# Altium footprint library CMR_Resistors_Capacitors_and_Inductors.PcbLib: 47 footprints (part 2 of 3)
Each footprint in its own frame and in the unit in brackets; x right, y up, seen from the top. Pads: shape width x height; smd on the part's side, far side on the other; paste and mask are expansions set on the pad; w line width, h text height; cw(c..) or ccw(c..) is an arc to the next point about the centre after c.
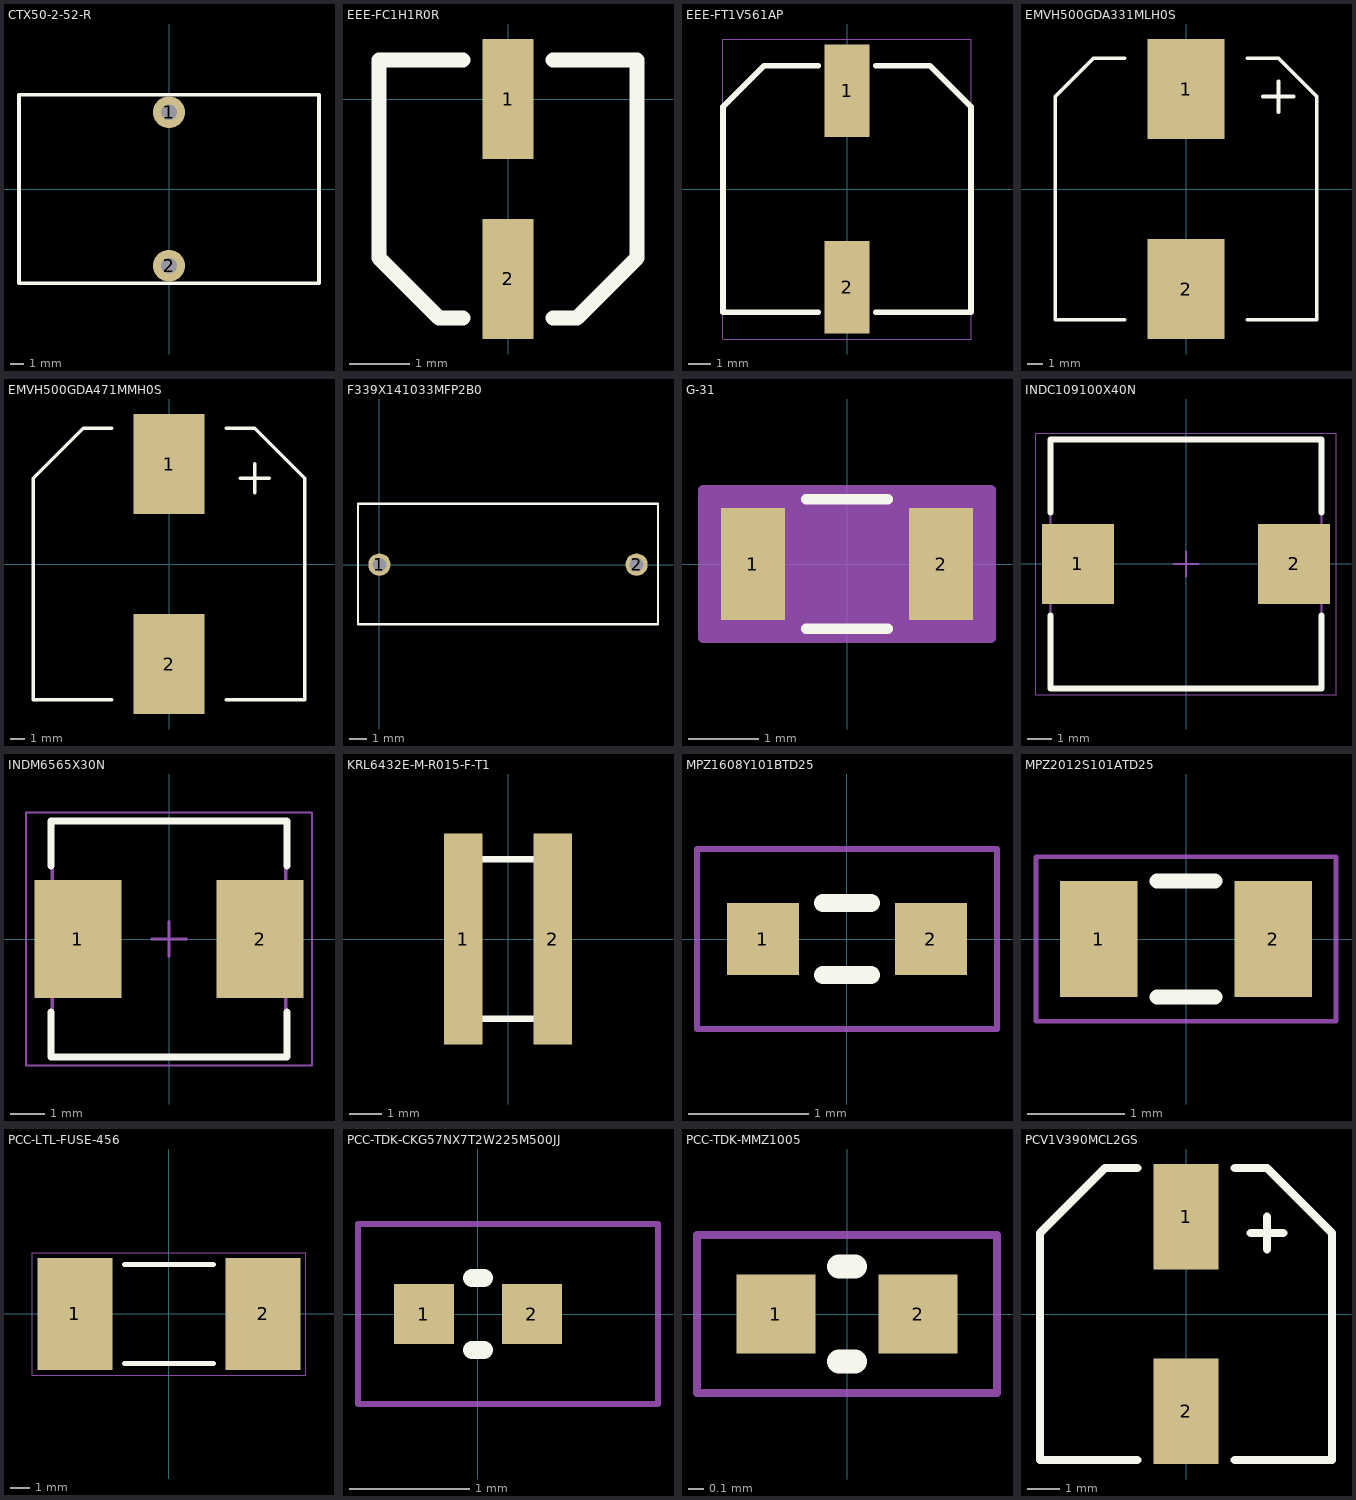
[diagram p1: the footprints below, top view; thin cyan lines are the x and y axes]

## CTX50-2-52-R [mil] "Horizontal mounted fixed inductor"
height 535.43
pads (2):
  round 90 hole 45: 1(0,216.54) 2(0,-216.54)
Top Overlay:
  lines w10: -423.23,-265.75 -423.23,265.75 423.23,265.75 423.23,-265.75 -423.23,-265.75
3D body: height 850.28, standoff 0.12, extent -424.73,-269.68 425.2,265.75

## EEE-FC1H1R0R [mm] "Capacitor 1uF Aluminum Electrolytic"
pads (2):
  rect 0.85x2 smd: 1(0,0) 2(0,-3)
Top Overlay:
  lines w0.254: -0.75,-3.65 -1.15,-3.65 -2.15,-2.65 ; -0.75,0.65 -2.15,0.65 -2.15,-2.65 ; 0.75,-3.65 1.15,-3.65 2.15,-2.65 2.15,0.65 0.75,0.65 ; -2.15,-2.65 -2.15,-2.65
3D body: height 1, standoff 0, extent -2.15,-3.65 2.15,0.65
3D body: height 5.4, standoff 1, extent -2,-3.5 2,0.5

## EEE-FT1V561AP [mm] "Capacitor 1uF Aluminum Electrolytic"
height 0.01
pads (2):
  rect 2x4.1 smd: 1(0,4.35) 2(0,-4.35)
Top Overlay:
  lines w0.254: -1.27,-5.461 -5.5,-5.461 -5.5,3.644 -3.683,5.461 -1.27,5.461 ; 1.27,-5.461 5.5,-5.461 5.5,3.644 3.683,5.461 1.27,5.461
Mechanical 15:
  lines w0.05: -5.5,-6.65 5.5,-6.65 5.5,6.65 -5.5,6.65 -5.5,-6.65
3D body "CAP_EEFK_G.stp": height 10.54, standoff 0, extent -5.245,-5.995 5.245,5.994

## EMVH500GDA331MLH0S [mm] "330uF 50V Capacitor"
height 16.5
pads (2):
  rect 5x6.5 smd: 1(0,6.5) 2(0,-6.5)
Top Overlay:
  lines w0.254: -4,-8.5 -8.5,-8.5 -8.5,6 -6,8.5 -4,8.5 ; 4,-8.5 8.5,-8.5 8.5,6 6,8.5 4,8.5 ; 5,6 7,6 ; 6,5 6,7
3D body: height 7, standoff 0.2, extent -8.5,-8.5 8.5,8.5
3D body: height 16.5, standoff 7, extent -7.991,-7.998 8,7.998

## EMVH500GDA471MMH0S [mm] "470uF 50V Capacitor"
height 16.5
pads (2):
  rect 5x7 smd: 1(0,7) 2(0,-7)
Top Overlay:
  lines w0.254: -4,-9.5 -9.5,-9.5 -9.5,6 -6,9.5 -4,9.5 ; 4,-9.5 9.5,-9.5 9.5,6 6,9.5 4,9.5 ; 5,6 7,6 ; 6,5 6,7
3D body: height 16.5, standoff 7, extent -8.99,-8.997 9,8.998
3D body: height 7, standoff 0.2, extent -9.5,-9.5 9.5,9.5

## F339X141033MFP2B0 [mm] "CAP FILM 0.1UF 20% 800VDC RADIAL"
height 13.5
pads (2):
  round 1.3 hole 0.8: 1(0,0) 2(15,0)
Top Overlay:
  lines w0.127: -1.25,3.522 -1.25,-3.478 16.25,-3.478 16.25,3.522 ; -1.25,3.55 16.25,3.55
3D body: height 17.5, standoff 0, extent -1.25,-3.475 16.25,3.55

## G-31 [mil]
pads (2):
  rect 36x63 smd paste+0 mask+0: 1(-53,0) 2(53,0)
Top Overlay:
  lines w6: -22.89,-36.5 22.89,-36.5 ; -22.89,36.5 22.89,36.5
Mechanical 13:
  circle w0: c-48,0 r3
Mechanical 15:
  region: 81,-41.5 -81,-41.5 -81,41.5 81,41.5
  lines w6: -81,-41.5 -81,41.5 81,41.5 81,-41.5 -81,-41.5
3D body "G-31.step": height 79.02, standoff 0, extent -62.99,-31.49 63,31.5

## INDC109100X40N [mm] "Chip Inductor, 2-Leads, Body 10.90x10.00mm, IPC Medium Density"
height 4
pads (2):
  rect 2.97x3.3 smd: 1(-4.47,0) 2(4.47,0)
Top Overlay:
  lines w0.254: -5.6,-2.125 -5.6,-5.15 5.6,-5.15 5.6,-2.125 ; -5.6,2.125 -5.6,5.15 5.6,5.15 5.6,2.125
Mechanical 13:
  lines w0.1: -5.6,-5.15 -5.6,5.15 5.6,5.15 5.6,-5.15 -5.6,-5.15
Mechanical 15:
  lines w0.05: -6.2,-5.4 -6.2,5.4 6.2,5.4 6.2,-5.4 -6.2,-5.4
  lines w0.1: -0.5,0 0.5,0 ; 0,-0.5 0,0.5
3D body "INDC109100X40N.step": height 4, standoff 0, extent -5.6,-5.15 5.6,5.15

## INDM6565X30N [mm] "Molded Inductor, 2-Leads, Body 6.47x6.47mm, IPC Medium Density"
height 3
pads (2):
  rect 2.5x3.4 smd: 1(-2.625,0) 2(2.625,0)
Top Overlay:
  lines w0.2: -3.4,-2.1 -3.4,-3.4 3.4,-3.4 3.4,-2.1 ; -3.4,2.1 -3.4,3.4 3.4,3.4 3.4,2.1
Mechanical 13:
  lines w0.1: -3.36,-3.36 3.36,-3.36 3.36,3.36 -3.36,3.36 -3.36,-3.36
Mechanical 15:
  lines w0.05: -4.125,-3.65 4.125,-3.65 4.125,3.65 -4.125,3.65 -4.125,-3.65
  lines w0.1: -0.5,0 0.5,0 ; 0,-0.5 0,0.5
3D body "INDM6565X30N.step": height 3, standoff 0, extent -3.58,-3.36 3.58,3.36

## KRL6432E-M-R015-F-T1 [mm]
pads (2):
  rect 1.2x6.6 smd: 1(-1.4,0) 2(1.4,0)
Top Overlay:
  lines w0.2: -1.2,-2.5 1.2,-2.5 1.2,2.5 -1.2,2.5 -1.2,0 -1.2,-2.5
3D body "RES_6432.stp": height 0.7, standoff 0, extent -1.65,-3.25 1.65,3.25

## MPZ1608Y101BTD25 [mm] "Ferrite Bead, 2A, 0603, 100 Ohm Impedance, 40mOhm DCR"
height 0.95
pads (2):
  rect 0.6x0.6 smd: 1(-0.7,0) 2(0.7,0)
Top Overlay:
  lines w0.152: -0.2,-0.3 0.2,-0.3 ; -0.2,0.3 0.2,0.3
Mechanical 15:
  lines w0.05: -1.25,-0.75 -1.25,0.75 1.25,0.75 1.25,-0.75 -1.25,-0.75
3D body: height 0.95, standoff 0.03, extent -0.875,-0.475 0.875,0.475

## MPZ2012S101ATD25 [mm] "Ferrite Bead, 0805, 4A, 100 Ohm Impedance, 20mOhm DCR"
height 0.95
pads (2):
  rect 0.8x1.2 smd: 1(-0.9,0) 2(0.9,0)
Top Overlay:
  lines w0.152: -0.3,-0.6 0.3,-0.6 ; -0.3,0.6 0.3,0.6
Mechanical 15:
  lines w0.05: -1.55,-0.85 -1.55,0.85 1.55,0.85 1.55,-0.85 -1.55,-0.85
3D body: height 0.95, standoff 0.03, extent -1,-0.625 1,0.625

## PCC-LTL-FUSE-456 [mm]
height 3.12
pads (2):
  rect 3.79x5.65 smd: 1(-4.755,0) 2(4.755,0)
Top Overlay:
  lines w0.254: -2.25,-2.5 2.25,-2.5 ; -2.25,2.5 2.25,2.5
Mechanical 15:
  lines w0.05: -6.9,-3.1 -6.9,3.1 6.9,3.1 6.9,-3.1 -6.9,-3.1
3D body: height 4.25, standoff 0.3, extent -6,-2 6,2
3D body: height 4.44, standoff 0, extent -6.25,-2.223 -3.45,2.222
3D body: height 4.44, standoff 0, extent 3.45,-2.223 6.25,2.222

## PCC-TDK-CKG57NX7T2W225M500JJ [mm] "Capacitor, 450V, 2.2uF, stackerd"
height 5
pads (2):
  rect 0.5x0.5 smd: 1(-0.45,0) 2(0.45,0)
Top Overlay:
  lines w0.152: -0.05,-0.3 0.05,-0.3 ; -0.05,0.3 0.05,0.3
Mechanical 15:
  lines w0.05: -1,-0.75 1.5,-0.75 1.5,0.75 -1,0.75 -1,-0.75

## PCC-TDK-MMZ1005 [mm] "Ferrite Bead, 2A, 0402, 100 Ohm Impedance, 40mOhm DCR"
height 0.5
pads (2):
  rect 0.5x0.5 smd: 1(-0.45,0) 2(0.45,0)
Top Overlay:
  lines w0.152: -0.05,-0.3 0.05,-0.3 ; -0.05,0.3 0.05,0.3
Mechanical 15:
  lines w0.05: -0.95,-0.5 -0.95,0.5 0.95,0.5 0.95,-0.5 -0.95,-0.5
3D body: height 0.55, standoff 0, extent -0.525,-0.275 0.525,0.275

## PCV1V390MCL2GS [mm] "39uF 35V Capacitor"
height 6.9
pads (2):
  rect 2x3.25 smd: 1(0,3) 2(0,-3)
Top Overlay:
  lines w0.254: -1.5,-4.5 -4.5,-4.5 -4.5,2.5 -2.5,4.5 -1.5,4.5 ; 1.5,-4.5 4.5,-4.5 4.5,2.5 2.5,4.5 1.5,4.5 ; 2,2.5 3,2.5 ; 2.5,2 2.5,3
3D body: height 1, standoff 0.2, extent -4.5,-4.5 4.5,4.5
3D body: height 6.9, standoff 1, extent -3.995,-3.999 4,3.999